# EAGLE library part MT7681 (library Linkit_connect_module)
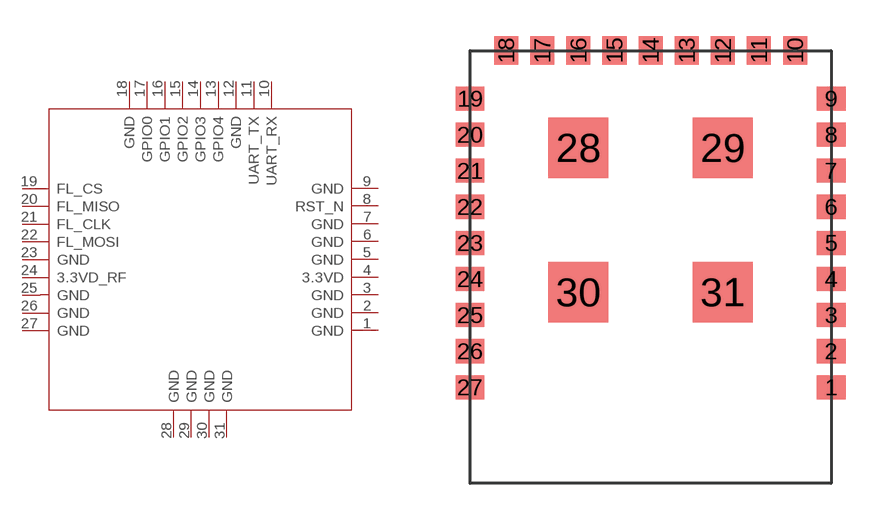
[diagram p0: symbol with the pads of 31P-L18.0XW15.0MM; footprint 31P-L18.0XW15.0MM]

Designator prefix U

## MT7681  [31P-L18.0XW15.0MM]
1  GND
2  GND
3  GND
4  3.3VD
5  GND
6  GND
7  GND
8  RST_N
9  GND
10  UART_RX
11  UART_TX
12  GND
13  GPIO4
14  GPIO3
15  GPIO2
16  GPIO1
17  GPIO0
18  GND
19  FL_CS
20  FL_MISO
21  FL_CLK
22  FL_MOSI
23  GND
24  3.3VD_RF
25  GND
26  GND
27  GND
28  GND
29  GND
30  GND
31  GND

## Footprint 31P-L18.0XW15.0MM (pad centres in mm)
smd 1.2 x 1: 1 7.5,-5; 2 7.5,-3.5; 3 7.5,-2; 4 7.5,-0.5; 5 7.5,1; 6 7.5,2.5; 7 7.5,4; 8 7.5,5.5; 9 7.5,7; 19 -7.5,7; 20 -7.5,5.5; 21 -7.5,4; 22 -7.5,2.5; 23 -7.5,1; 24 -7.5,-0.5; 25 -7.5,-2; 26 -7.5,-3.5; 27 -7.5,-5
smd 1 x 1.2: 10 6,9; 11 4.5,9; 12 3,9; 13 1.5,9; 14 0,9; 15 -1.5,9; 16 -3,9; 17 -4.5,9; 18 -6,9
smd 2.5 x 2.5: 28 -3,4.95; 29 3,4.95; 30 -3,-1.05; 31 3,-1.05